# Altium footprint library ebf EP4CE10 Mini_20200309_PCB库_AD格式.PcbLib: 37 footprints (part 2 of 3)
Each footprint in its own frame and in the unit in brackets; x right, y up, seen from the top. Pads: shape width x height; smd on the part's side, far side on the other; paste and mask are expansions set on the pad; w line width, h text height; cw(c..) or ccw(c..) is an arc to the next point about the centre after c.
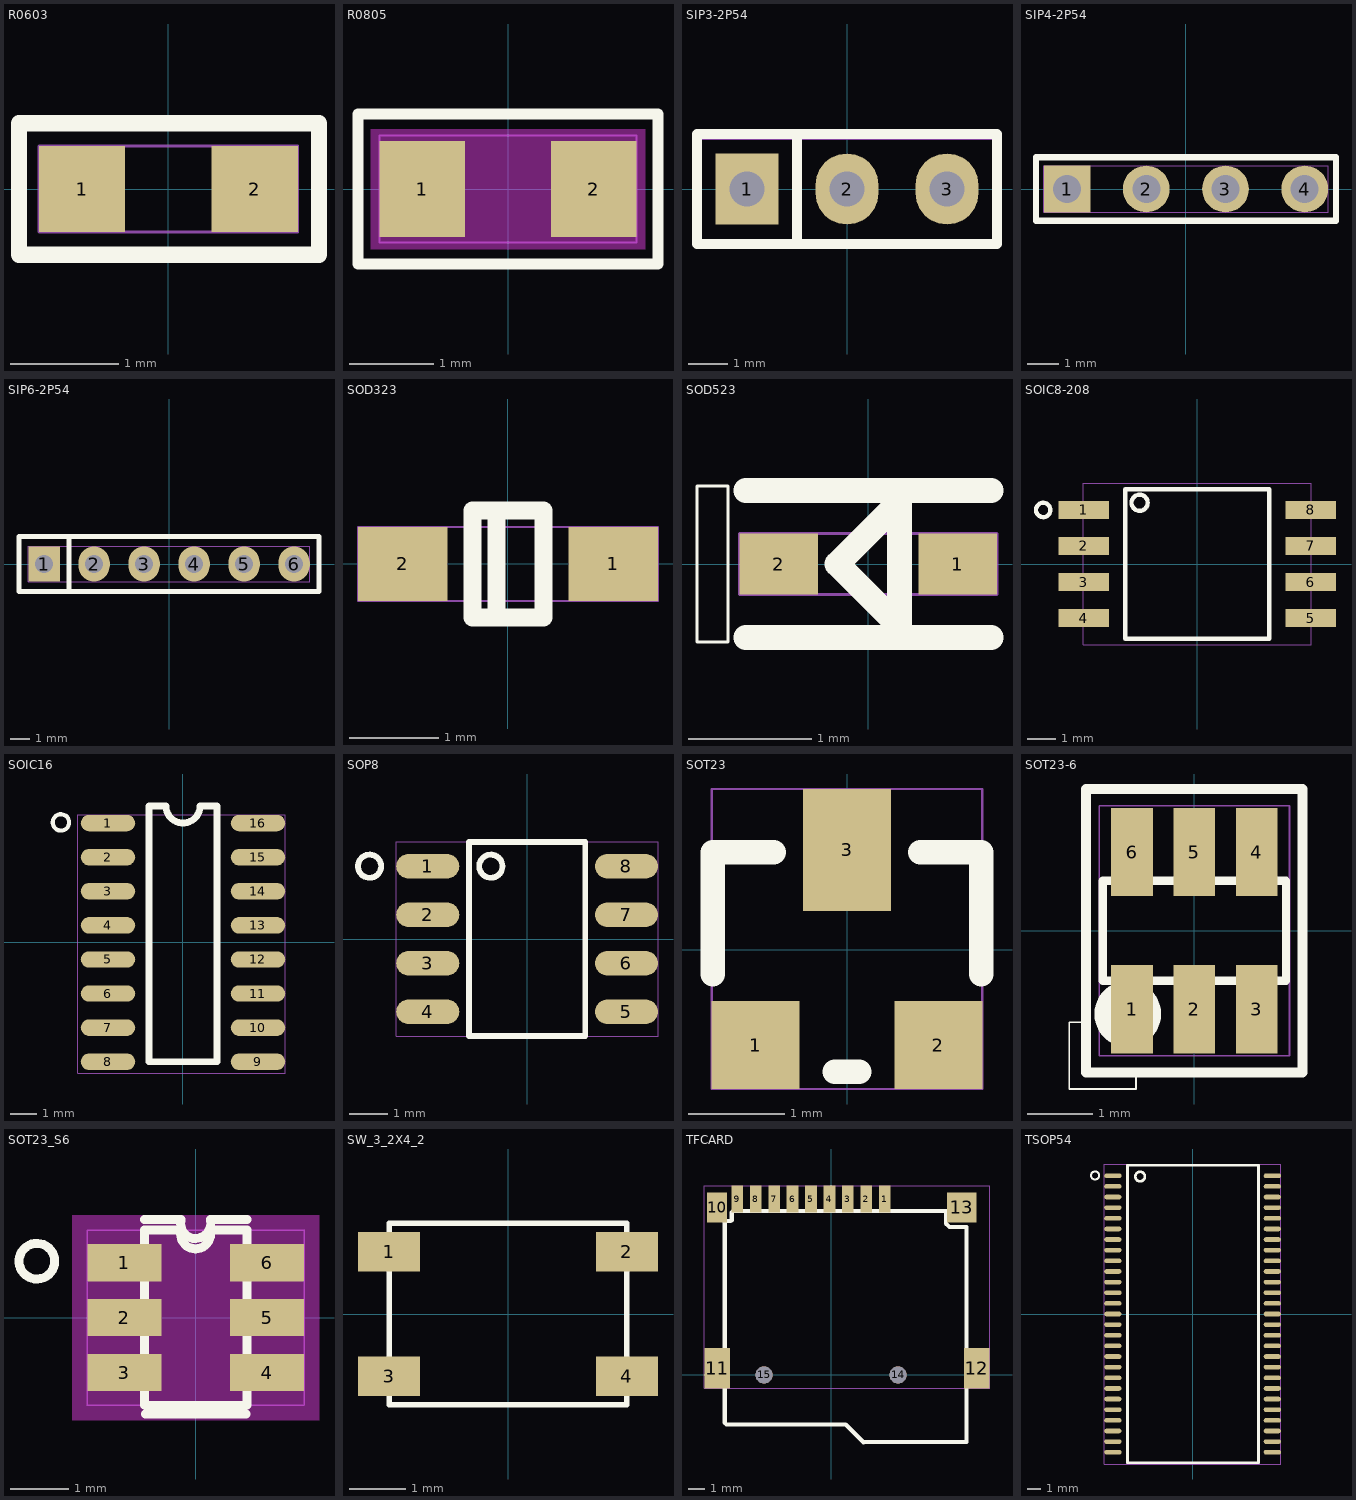
[diagram p1: the footprints below, top view; thin cyan lines are the x and y axes]

## R0603 [mil]
pads (2):
  rect 31.5x31.5 smd mask+1.95: 1(-31.5,0) 2(31.5,0)
Top Overlay:
  lines w6: -54.5,-24 -54.5,24 55,24 55,-24 -54.5,-24
Top Assembly:
  text "R99" at -60.04,-25.04 h50
Mechanical 20:
  lines w1: -47.2,-15.7 47.2,-15.7 47.2,15.7 -47.2,15.7 -47.2,-15.7

## R0805 [mil]
pads (2):
  rect 40x45 smd mask+4: 1(-40,0) 2(40,0)
Top Layer keep-out:
  region: -64,-28 -64,28 64,28 64,-28
Top Overlay:
  lines w5: -70,-35 -70,35 70,35 70,-35 -70,-35
Top Assembly:
  text "R96" at -60.04,-25.04 h50
Mechanical 20:
  lines w1: -60,-25 -60,25 60,25 60,-25 -60,-25

## SIP3-2P54 [mil]
pads (3):
  rect 63x70.9 hole 35.4 mask+1.95: 1(-100,0)
  oval 63x70.9 hole 35.4 mask+1.95: 2(0,0) 3(100,0)
Top Overlay:
  lines w10: -50,-55.1 -50,55.1 ; -150,-55.1 150,-55.1 150,55.1 -150,55.1 -150,-55.1
Top Assembly:
  text "J4" at -36.23,-25.04 h50
Mechanical 20:
  lines w1: -150,-50 -150,50 150,50 150,-50 -150,-50

## SIP4-2P54 [mil]
pads (4):
  rect 59.1x59.1 / inner round 59.1 / far side rect 59.1x59.1 hole 35.4 mask+1.95: 1(-150,0)
  round 59.1 hole 35.4 mask+1.95: 2(-50,0) 3(50,0) 4(150,0)
Top Overlay:
  lines w7.9: -189.4,-40 -189.4,40 189.6,40 189.6,-40 -189.4,-40
Top Assembly:
  text "J3" at -35.04,-25.04 h50
Mechanical 20:
  lines w1: -179.5,-29.5 179.5,-29.5 179.5,29.5 -179.5,29.5 -179.5,-29.5

## SIP6-2P54 [mil]
pads (6):
  rect 63x70.9 hole 35.4 mask+1.95: 1(-250,0)
  oval 63x70.9 hole 35.4 mask+1.95: 2(-150,0) 3(-50,0) 4(50,0) 5(150,0) 6(250,0)
Top Overlay:
  lines w10: -200,-55.1 -200,55.1 ; -300,-55.1 -300,55.1 300,55.1 300,-55.1 -300,-55.1
Top Assembly:
  text "J7" at -35.04,-25.04 h50
Mechanical 20:
  lines w1: -281.5,-35.4 -281.5,35.4 281.5,35.4 281.5,-35.4 -281.5,-35.4

## SOD323 [mil]
pads (2):
  rect 39.4x32.7 smd mask+1.95: 1(46.5,0) 2(-46.5,0)
Top Overlay:
  lines w7.9: -5.1,-23.6 -5.1,23.6 ; -15.7,-23.6 15.7,-23.6 15.7,23.6 -15.7,23.6 -15.7,-23.6
Top Assembly:
  text "Z6" at -37.78,-25.04 h50
Mechanical 20:
  lines w1: -66.1,-16.3 66.1,-16.3 66.1,16.3 -66.1,16.3 -66.1,-16.3

## SOD523 [mil]
pads (2):
  rect 25.2x19.7 smd mask+1.95: 1(28.7,0) 2(-28.7,0)
Top Overlay:
  lines w1: -55,-25 -45,-25 -45,25 -55,25 -55,-25
  lines w7.9: -39.4,-23.6 39.4,-23.6 ; -39.4,23.6 39.4,23.6
  lines w8: -10,0 10,-20 10,20 -10,0
Top Assembly:
  text "TVS5" at -80.87,-25.04 h50
Mechanical 20:
  lines w1: -41.3,-9.8 41.3,-9.8 41.3,9.8 -41.3,9.8 -41.3,-9.8

## SOIC8-208 [mil]
pads (8):
  rect 70x25 smd mask+2: 1(-157.5,75) 2(-157.5,25) 3(-157.5,-25) 4(-157.5,-75) 5(157.5,-75) 6(157.5,-25) 7(157.5,25) 8(157.5,75)
Top Overlay:
  circle w6: c-80,85 r11.18
  circle w6: c-213.78,75 r9.98
  lines w6: -100,-103.9 -100,103.9 ; -100,-103.9 100,-103.9 ; -100,-103.9 -100,103.9 ; -100,-103.9 100,-103.9 ; -100,103.9 100,103.9 ; -100,103.9 100,103.9 ; 100,-103.9 100,103.9 ; 100,-103.9 100,103.9
Top Assembly:
  text "U6" at -39.09,-25.04 h50
Mechanical 20:
  lines w1: -158.2,-112 158.2,-112 158.2,112 -158.2,112 -158.2,-112

## SOIC16 [mil]
pads (16):
  oval 80x24 smd mask+2.5: 1(-110,175) 2(-110,125) 3(-110,75) 4(-110,25) 5(-110,-25) 6(-110,-75) 7(-110,-125) 8(-110,-175) 9(110,-175) 10(110,-125) 11(110,-75) 12(110,-25) 13(110,25) 14(110,75) 15(110,125) 16(110,175)
Top Overlay:
  circle w6: c-179.02,175.99 r12.02
  lines w10: -50,-175 50,-175 50,200 25,200 cw(c0,200) -25,200 -50,200 -50,-175
Top Assembly:
  text "U16" at -57.42,-25.04 h50
Mechanical 20:
  lines w1: -154,-192 150,-192 150,187 -154,187 -154,-192

## SOP8 [mil]
pads (8):
  oval 65x25 smd mask+1.95: 1(-102.4,75) 2(-102.4,25) 3(-102.4,-25) 4(-102.4,-75) 5(102.4,-75) 6(102.4,-25) 7(102.4,25) 8(102.4,75)
Top Overlay:
  circle w6: c-162.36,75 r11.96
  circle w6: c-37.36,75 r11.96
  lines w6: -60,-100 60,-100 60,100 -60,100 -60,-100
Top Assembly:
  text "U7" at -40.28,-25.04 h50
Mechanical 20:
  lines w1: -134.9,-100 -134.9,100 134.9,100 134.9,-100 -134.9,-100

## SOT23 [mil]
pads (3):
  rect 36x36 smd mask+1.95: 1(-37.5,-39) 2(37.5,-39)
  rect 36x50 smd mask+1.95: 3(0,41)
Top Overlay:
  lines w10: -55,-10 -55,40 -30,40 ; -5,-50 5,-50 ; 30,40 55,40 55,-10
Top Assembly:
  text "Q9" at -40.4,-27.43 h50
Mechanical 20:
  lines w1: -55.5,-57 55.5,-57 55.5,66 -55.5,66 -55.5,-57

## SOT23-6 [mil]
pads (6):
  rect 25x53 smd mask+3: 1(-37.4,-47.2) 2(0,-47.2) 3(37.4,-47.2) 4(37.4,47.2) 5(0,47.2) 6(-37.4,47.2)
Top Overlay:
  circle w20: c-40,-50 r10
  lines w1: -75,-95 -35,-95 -35,-85 -65,-85 -65,-55 -75,-55 -75,-95
  lines w5: -45,-30 -45,-60 -30,-60 -30,-30 ; -45,30 -45,60 -30,60 -30,30 ; -7.5,-30 -7.5,-60 7.5,-60 7.5,-30 ; -7.5,30 -7.5,60 7.5,60 7.5,30 ; 30,-30 30,-60 45,-60 45,-30 ; 30,30 30,60 45,60 45,30 ; -55,-30 -55,30 55,30 55,-30 -55,-30
  lines w6: -65,-85 -65,85 65,85 65,-85 -65,-85
Top Assembly:
  text "U9" at -39.09,-25.04 h50
Mechanical 20:
  lines w1: -57.1,-75 -57.1,75 57.1,75 57.1,-75 -57.1,-75

## SOT23_S6 [mil]
pads (6):
  rect 50x25 smd mask+2: 1(-48,37) 2(-48,0) 3(-48,-37) 4(48,-37) 5(48,0) 6(48,37)
Top Layer keep-out:
  region: -83.1,-69 -83.1,69 83,69 83,-69
Top Overlay:
  circle w6: c-107.02,37.99 r12.02
  lines w6: -34.5,66 -10,66 ; -34,-65 34,-65 ; -10,58 ccw(c-0.22,56.24) -0.2,46.3 ccw(c-0.2,56.6) 10,58 9.8,58.3 ; -10,59 -34.5,59 -34.5,-59 34.5,-59 34.5,59 10,59 ; -10,65 ccw(c-0.22,63.24) -0.2,53.3 ccw(c-0.2,63.6) 10,65 9.8,65.3 ; 10,66 34.5,66
Top Assembly:
  text "U15" at -58.61,-25.04 h50
Mechanical 20:
  lines w1: -73,-59 -73,59 73,59 73,-59 -73,-59

## SW_3_2X4_2 [mil]
pads (4):
  rect 43.3x27.6 smd mask+1.95: 1(-82.7,43.3) 2(82.7,43.3) 3(-82.7,-43.3) 4(82.7,-43.3)
Top Overlay:
  lines w3.9: -82.7,-63 -82.7,63 82.7,63 82.7,-63 -82.7,-63
Top Assembly:
  text "SW6" at -66.58,-25.04 h50
Mechanical 20:
  lines w1: -82.8,-62.3 83.4,-62.3 83.4,62.9 -82.8,62.9 -82.8,-62.3

## TFCARD [mil]
pads (15):
  rect 27.6x63 smd mask+1.95: 1(126,413.4) 2(82.7,413.4) 3(39.4,413.4) 4(-3.9,413.4) 5(-47.3,413.4) 6(-90.6,413.4) 7(-133.9,413.4) 8(-177.2,413.4) 9(-220.5,413.4)
  rect 47.2x70 smd mask+1.95: 10(-267.7,393.7)
  rect 60x95 smd mask+1.95: 11(-267.7,15.7) 12(342.5,15.7)
  rect 70x70 smd mask+1.95: 13(307.1,393.7)
  round 40 hole 40 unplated mask+2.5: 14(157.5,0) 15(-157.5,0)
Top Overlay:
  lines w10: -251.7,361.7 -235.7,361.7 -233.7,363.7 -233.7,381.7 -229.7,385.7 270.3,385.7 270.3,355.7 278.3,347.7 318.3,347.7 318.3,-157.5 76.3,-158.3 34.3,-116.3 -245.7,-116.3 -249.7,-112.3 -249.7,359.7 -251.7,361.7
Top Assembly:
  text "J1" at -24.33,-25.04 h50
Mechanical 20:
  lines w1: -297.7,-31.7 372.5,-31.7 372.5,444.9 -297.7,444.9 -297.7,-31.7

## TSOP54 [mil]
pads (54):
  oval 51.2x13.8 smd mask+1.95: 1(-236.2,409.4) 2(-236.2,377.9) 3(-236.2,346.5) 4(-236.2,315) 5(-236.2,283.5) 6(-236.2,252) 7(-236.2,220.5) 8(-236.2,189) 9(-236.2,157.5) 10(-236.2,126) 11(-236.2,94.5) 12(-236.2,63) 13(-236.2,31.5) 14(-236.2,0) 15(-236.2,-31.5) 16(-236.2,-63) 17(-236.2,-94.5) 18(-236.2,-126) 19(-236.2,-157.5) 20(-236.2,-189) 21(-236.2,-220.5) 22(-236.2,-252) 23(-236.2,-283.5) 24(-236.2,-315) 25(-236.2,-346.5) 26(-236.2,-377.9) 27(-236.2,-409.4) 28(236.2,-409.4) 29(236.2,-377.9) 30(236.2,-346.5) 31(236.2,-315) 32(236.2,-283.5) 33(236.2,-252) 34(236.2,-220.5) 35(236.2,-189) 36(236.2,-157.5) 37(236.2,-126) 38(236.2,-94.5) 39(236.2,-63) 40(236.2,-31.5) 41(236.2,0) 42(236.2,31.5) 43(236.2,63) 44(236.2,94.5) 45(236.2,126) 46(236.2,157.5) 47(236.2,189) 48(236.2,220.5) 49(236.2,252) 50(236.2,283.5) 51(236.2,315) 52(236.2,346.5) 53(236.2,377.9) 54(236.2,409.4)
Top Overlay:
  circle w7.9: c-155.51,407.09 r14.21
  circle w6: c-288.86,410.38 r12.06
  lines w7.9: -192.9,-440.9 195.3,-440.9 ; -192.9,-440.9 -192.9,440.9 ; -192.9,-440.9 195.3,-440.9 ; -192.9,-440.9 -192.9,440.9 ; -192.9,440.9 195.3,440.9 ; -192.9,440.9 195.3,440.9 ; 195.3,-440.9 195.3,440.9 ; 195.3,-440.9 195.3,440.9
Top Assembly:
  text "U5" at -40.28,-25.04 h50
Mechanical 20:
  lines w1: -261.8,-444.3 -261.8,444.3 261.8,444.3 261.8,-444.3 -261.8,-444.3